# EAGLE library part CS42526 (library 25cmsquare)
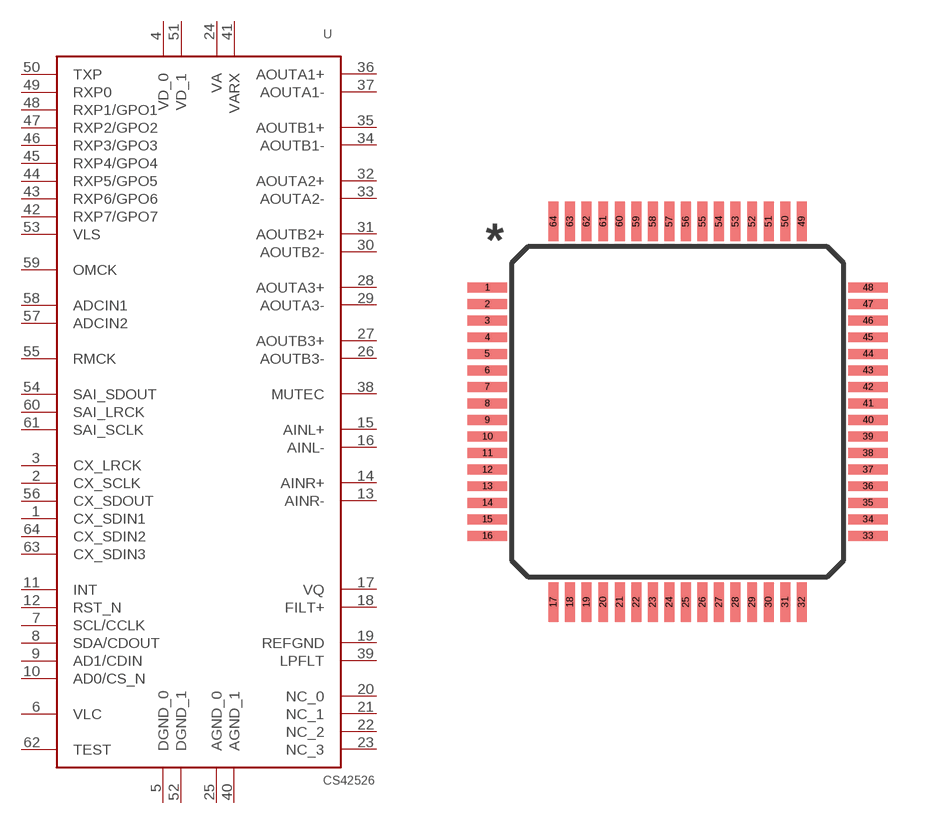
[diagram p20: symbol with the pads of LQFP_64; footprint LQFP_64]

Designator prefix U

## CS42526  [LQFP_64]
1  CX_SDIN1
2  CX_SCLK
3  CX_LRCK
4  VD_0
5  DGND_0
6  VLC
7  SCL/CCLK
8  SDA/CDOUT
9  AD1/CDIN
10  AD0/CS_N
11  INT
12  RST_N
13  AINR-
14  AINR+
15  AINL+
16  AINL-
17  VQ
18  FILT+
19  REFGND
20  NC_0
21  NC_1
22  NC_2
23  NC_3
24  VA
25  AGND_0
26  AOUTB3-
27  AOUTB3+
28  AOUTA3+
29  AOUTA3-
30  AOUTB2-
31  AOUTB2+
32  AOUTA2+
33  AOUTA2-
34  AOUTB1-
35  AOUTB1+
36  AOUTA1+
37  AOUTA1-
38  MUTEC
39  LPFLT
40  AGND_1
41  VARX
42  RXP7/GPO7
43  RXP6/GPO6
44  RXP5/GPO5
45  RXP4/GPO4
46  RXP3/GPO3
47  RXP2/GPO2
48  RXP1/GPO1
49  RXP0
50  TXP
51  VD_1
52  DGND_1
53  VLS
54  SAI_SDOUT
55  RMCK
56  CX_SDOUT
57  ADCIN2
58  ADCIN1
59  OMCK
60  SAI_LRCK
61  SAI_SCLK
62  TEST
63  CX_SDIN3
64  CX_SDIN2

## Footprint LQFP_64 (pad centres in mm)
smd 1.2 x 0.3: 1 -5.75,3.75; 2 -5.75,3.25; 3 -5.75,2.75; 4 -5.75,2.25; 5 -5.75,1.75; 6 -5.75,1.25; 7 -5.75,0.75; 8 -5.75,0.25; 9 -5.75,-0.25; 10 -5.75,-0.75; 11 -5.75,-1.25; 12 -5.75,-1.75; 13 -5.75,-2.25; 14 -5.75,-2.75; 15 -5.75,-3.25; 16 -5.75,-3.75; 33 5.75,-3.75; 34 5.75,-3.25; 35 5.75,-2.75; 36 5.75,-2.25; 37 5.75,-1.75; 38 5.75,-1.25; 39 5.75,-0.75; 40 5.75,-0.25; 41 5.75,0.25; 42 5.75,0.75; 43 5.75,1.25; 44 5.75,1.75; 45 5.75,2.25; 46 5.75,2.75; 47 5.75,3.25; 48 5.75,3.75
smd 0.3 x 1.2: 17 -3.75,-5.75; 18 -3.25,-5.75; 19 -2.75,-5.75; 20 -2.25,-5.75; 21 -1.75,-5.75; 22 -1.25,-5.75; 23 -0.75,-5.75; 24 -0.25,-5.75; 25 0.25,-5.75; 26 0.75,-5.75; 27 1.25,-5.75; 28 1.75,-5.75; 29 2.25,-5.75; 30 2.75,-5.75; 31 3.25,-5.75; 32 3.75,-5.75; 49 3.75,5.75; 50 3.25,5.75; 51 2.75,5.75; 52 2.25,5.75; 53 1.75,5.75; 54 1.25,5.75; 55 0.75,5.75; 56 0.25,5.75; 57 -0.25,5.75; 58 -0.75,5.75; 59 -1.25,5.75; 60 -1.75,5.75; 61 -2.25,5.75; 62 -2.75,5.75; 63 -3.25,5.75; 64 -3.75,5.75